# Altium footprint library footprints.PcbLib: 21 footprints (part 2 of 2)
Each footprint in its own frame and in the unit in brackets; x right, y up, seen from the top. Pads: shape width x height; smd on the part's side, far side on the other; paste and mask are expansions set on the pad; w line width, h text height; cw(c..) or ccw(c..) is an arc to the next point about the centre after c.
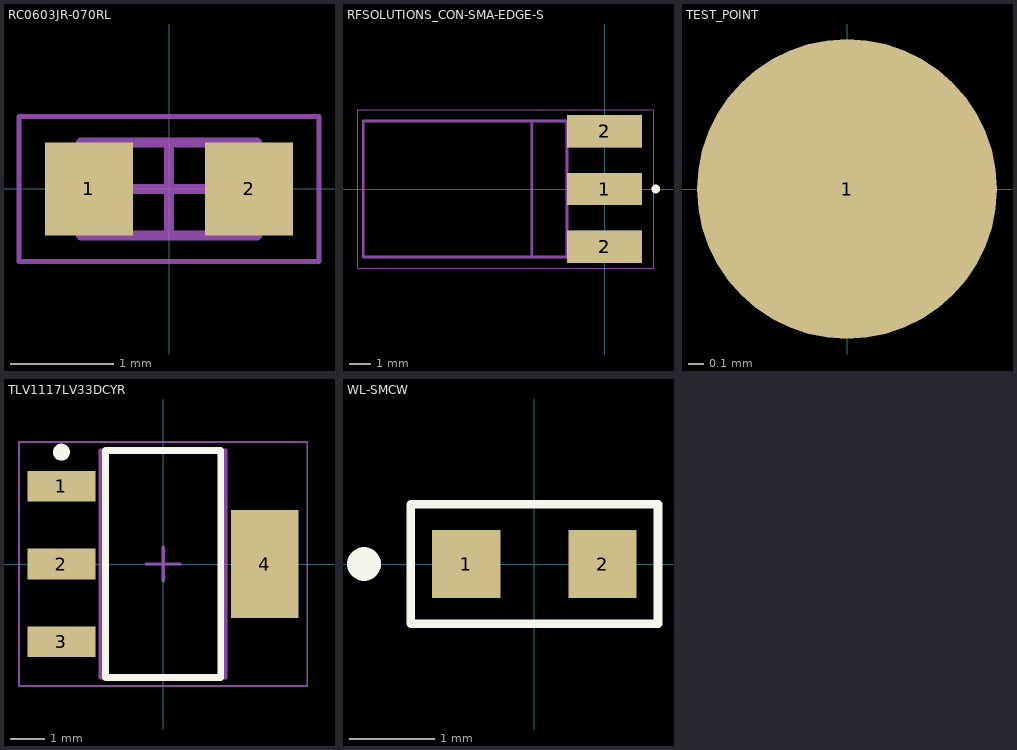
[diagram p1: the footprints below, top view; thin cyan lines are the x and y axes]

## RC0603JR-070RL [mm] "Chip Resistor, 2-Leads, Body 1.60x0.80mm, IPC Medium Density"
height 0.55
pads (2):
  rect 0.85x0.9 smd: 1(-0.775,0) 2(0.775,0)
Mechanical 13:
  lines w0.1: -0.85,-0.45 -0.85,0.45 0.85,0.45 0.85,-0.45 -0.85,-0.45
Mechanical 15:
  lines w0.05: -1.45,-0.7 -1.45,0.7 1.45,0.7 1.45,-0.7 -1.45,-0.7
  lines w0.1: -0.45,0 0.45,0 ; 0,-0.45 0,0.45
3D body "RC0603JR-070RL.step": height 0.55, standoff 0, extent -0.85,-0.45 0.85,0.45

## RFSOLUTIONS_CON-SMA-EDGE-S [mm]
height 6.35
pads (5):
  rect 3.5x1.5 smd: 1(0,0) 2(0,-2.7) 2(0,2.7)
  rect 3.5x1.5 smd far side: 2(0,-2.7) 2(0,2.7)
Top Overlay:
  circle w0.2: c2.4,0 r0.1
Mechanical 13:
  circle w0.2: c2.4,0 r0.1
  lines w0.127: -3.4,-3.175 -11.27,-3.175 -11.27,3.175 -3.4,3.175 ; -3.4,-3.175 -3.4,3.175 ; -3.4,-3.175 -1.75,-3.175 -1.75,3.175 -3.4,3.175
Mechanical 14:
  lines w0.127: -3.4,-3.175 -11.27,-3.175 -11.27,3.175 -3.4,3.175 ; -3.4,-3.175 -1.75,-3.175 -1.75,3.175 -3.4,3.175 ; -3.4,-3.175 -3.4,3.175
Mechanical 15:
  lines w0.05: -11.52,-3.7 -11.52,3.7 2.31,3.7 2.31,-3.7 -11.52,-3.7
Mechanical 16:
  lines w0.05: -11.52,-3.7 -11.52,3.7 2.31,3.7 2.31,-3.7 -11.52,-3.7
3D body "step_temp.STEP": height 3.55, standoff -2.8, extent -11.27,-3.175 2.06,3.175

## TEST_POINT [mm]
pads (1):
  round 2 smd paste-2539.97: 1(0,0)

## TLV1117LV33DCYR [mm] "SOT223, 4-Leads, Body 6.50x7.00mm (avg), Pitch 2.30mm, IPC Medium Density"
height 1.8
pads (4):
  rect 2x0.9 smd: 1(-3,2.3) 2(-3,0) 3(-3,-2.3)
  rect 2x3.2 smd: 4(3,0)
Top Overlay:
  circle w0.25: c-3,3.3 r0.125
  lines w0.2: -1.7,-3.35 1.7,-3.35 1.7,3.35 -1.7,3.35 -1.7,-3.35
Mechanical 13:
  lines w0.1: -1.85,-3.35 1.85,-3.35 1.85,3.35 -1.85,3.35 -1.85,-3.35
Mechanical 15:
  lines w0.05: -4.25,-3.6 4.25,-3.6 4.25,3.6 -4.25,3.6 -4.25,-3.6
  lines w0.1: -0.5,0 0.5,0 ; 0,-0.5 0,0.5
3D body "TLV1117LV33DCYR.step": height 1.8, standoff 0, extent -3.5,-3.35 3.5,3.35

## WL-SMCW [mm]
pads (2):
  rect 0.8x0.8 smd: 1(-0.8,0) 2(0.8,0)
Top Overlay:
  circle w0.254: c-2,0 r0.071
  lines w0.1: -1.45,-0.7 -1.45,0.7 1.45,0.7 1.45,-0.7 -1.45,-0.7
3D body "STP_150060xS75000 (rev1).stp": height 0.7, standoff 0, extent -0.8,-0.4 0.8,0.4